# Altium footprint library my_battery.PCBLIB: 41 footprints (part 2 of 3)
Each footprint in its own frame and in the unit in brackets; x right, y up, seen from the top. Pads: shape width x height; smd on the part's side, far side on the other; paste and mask are expansions set on the pad; w line width, h text height; cw(c..) or ccw(c..) is an arc to the next point about the centre after c.
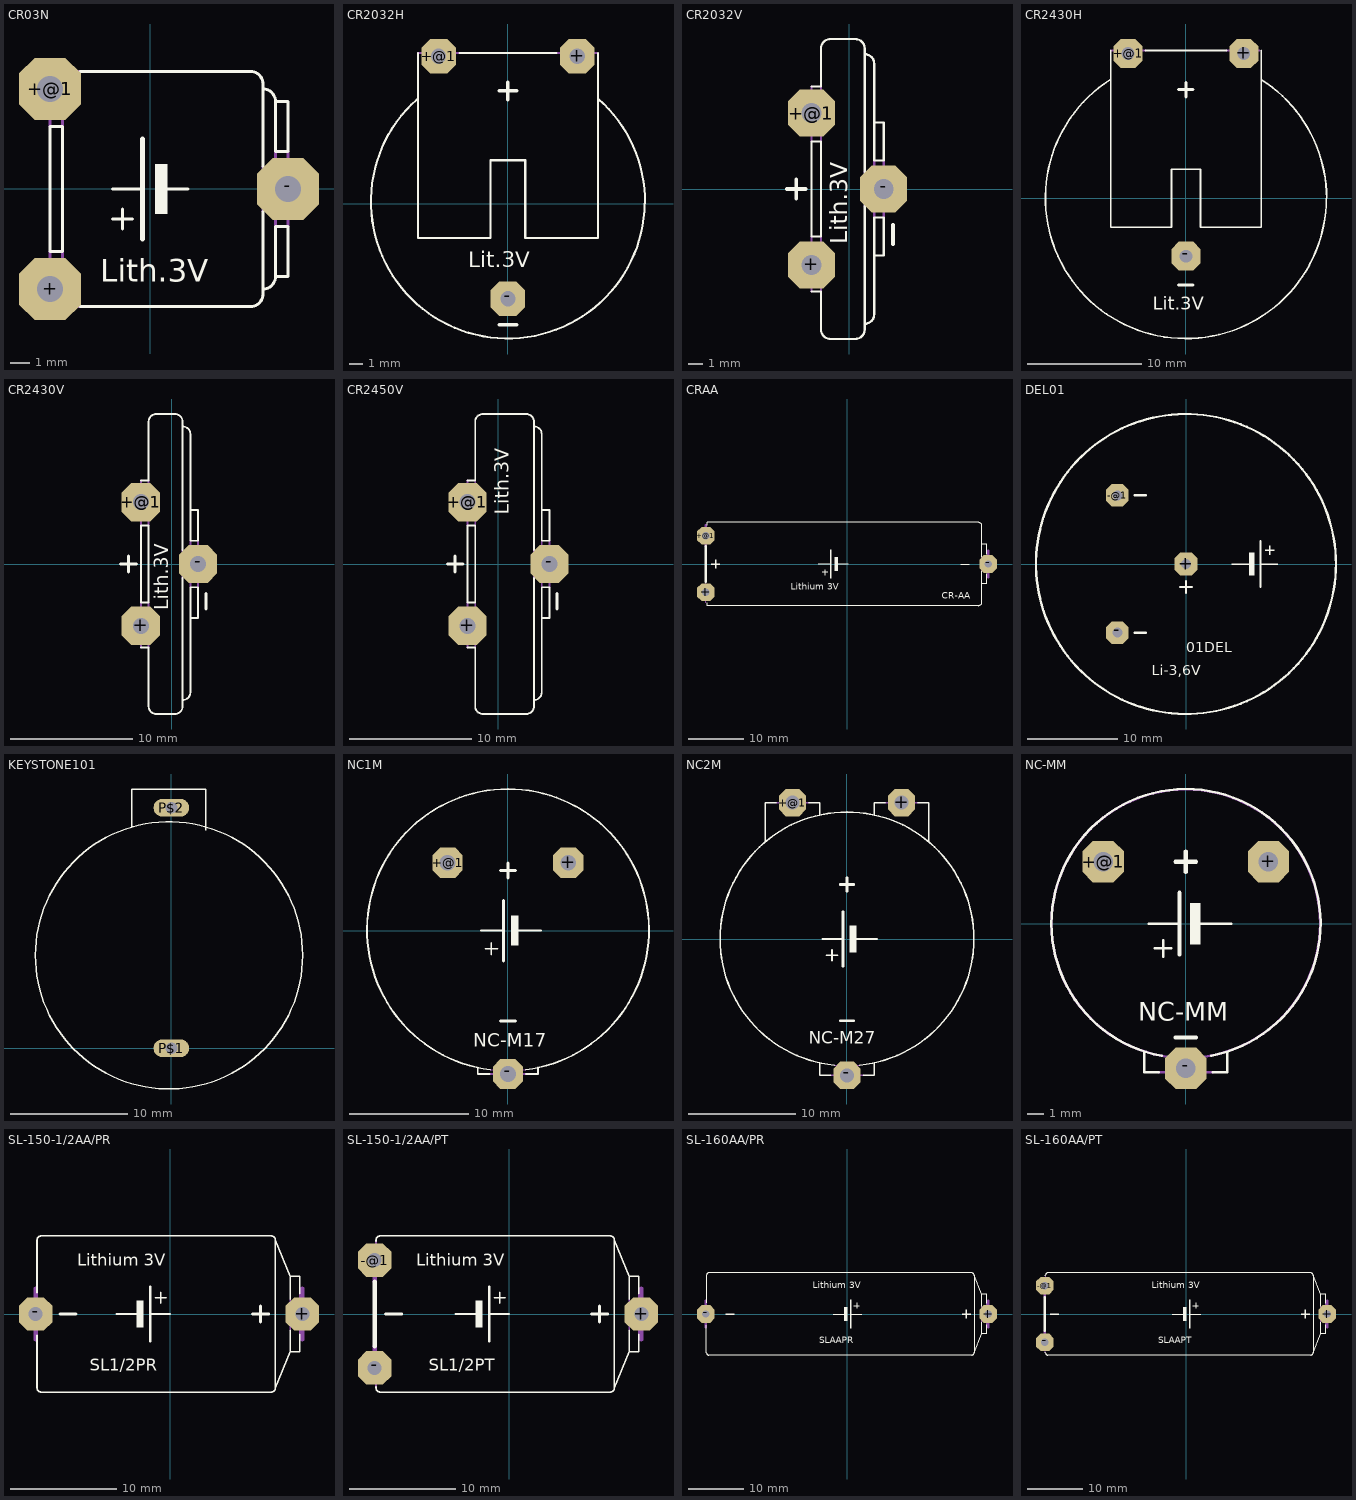
[diagram p1: the footprints below, top view; thin cyan lines are the x and y axes]

## CR03N [mil]
pads (3):
  oct 124x124 hole 52: +(-200,-200) +@1(-200,200) -(275,0)
Top Overlay:
  rectangle: 10,-50 35,50
  lines w6: -140,-235 200,-235 ccw(c200,-210) 225,-210 225,-45 ; -140,235 200,235 cw(c200,210) 225,210 225,45 ; -75,-60 -35,-60 ; -75,0 -15,0 ; -55,-80 -55,-40 ; 35,0 75,0 ; 225,-200 ccw(c225,-175) 250,-175 ; 225,200 cw(c225,175) 250,175 ; 250,-175 250,-75 275,-75 275,-175 250,-175 ; 250,175 250,75 275,75 275,175 250,175 ; -200,-125 -200,125 -175,125 -175,-125 -200,-125
  lines w10: -15,-100 -15,0 -15,100
  text "Lith.3V" at -100,-200 h77.5
Mechanical 16:
  lines w6: -200,-125 -200,-235 -175,-235 -175,-125 ; -200,125 -200,235 -175,235 -175,125 ; -175,-210 ccw(c-150,-210) -150,-235 -140,-235 ; -175,210 cw(c-150,210) -150,235 -140,235 ; 225,-45 225,45 ; 250,-75 250,75 ; 275,-75 275,75

## CR2032H [mil]
pads (3):
  oct 100x100 hole 44: +(200,425) +@1(-200,425) -(0,-275)
Top Overlay:
  lines w6: -263.7,300 ccw(c-0.19,5.43) 395,0 ; -260,435 -260,-100 -50,-100 -50,125 50,125 50,-100 260,-100 260,435 ; -140,435 140,435 ; 261,302 cw(c0.51,4.38) 396,0
  lines w10: -25,-350 25,-350 ; -25,325 25,325 ; 0,300 0,350
  text "Lit.3V" at -115,-200 h77.5
Mechanical 16:
  lines w6: -260,435 -140,435 ; 140,435 255,435

## CR2032V [mil]
pads (3):
  oct 124x124 hole 52: +(-100,-200) +@1(-100,200) -(90,0)
Top Overlay:
  lines w6: -100,-270 -75,-270 -75,-370 ccw(c-50,-370) -50,-395 15,-395 ccw(c15,-370) 40,-370 40,-45 ; -100,270 -75,270 -75,370 cw(c-50,370) -50,395 15,395 cw(c15,370) 40,370 40,45 ; 40,-355 ccw(c40,-330) 65,-330 65,-175 ; 40,355 cw(c40,330) 65,330 65,175 ; 65,-175 65,-75 90,-75 90,-175 65,-175 ; 65,175 65,75 90,75 90,175 65,175 ; -100,-125 -100,125 -75,125 -75,-125 -100,-125
  lines w10: -165,0 -115,0 ; -140,-25 -140,25 ; 115,-145 115,-95
  text "Lith.3V" at 10,-145 h77.5
Mechanical 16:
  lines w6: -100,-270 -100,-125 ; -100,125 -100,270 ; -75,-270 -75,-125 ; -75,125 -75,270 ; 40,-45 40,45 ; 65,-75 65,75 ; 90,-75 90,75

## CR2430H [mil]
pads (3):
  oct 100x100 hole 44: +(200,500) +@1(-200,500) -(0,-200)
Top Overlay:
  lines w6: -262.01,409 ccw(c-0.24,0.43) 485,0 ; -260,510 -260,-100 -50,-100 -50,100 50,100 50,-100 260,-100 260,510 ; -140,510 140,510 ; 260,410 cw(c0.25,-0.46) 486,0
  lines w10: -25,-300 25,-300 ; -25,375 25,375 ; 0,350 0,400
  text "Lit.3V" at -115,-400 h77.5
Mechanical 16:
  lines w6: -260,510 -140,510 ; 140,510 255,510

## CR2430V [mil]
pads (3):
  oct 124x124 hole 52: +(-100,-200) +@1(-100,200) -(85,0)
Top Overlay:
  lines w6: -100,-270 -75,-270 -75,-460 ccw(c-50,-460) -50,-485 10,-485 ccw(c10,-460) 35,-460 35,-45 ; -100,270 -75,270 -75,460 cw(c-50,460) -50,485 10,485 cw(c10,460) 35,460 35,45 ; 35,-440 ccw(c35,-415) 60,-415 60,-175 ; 35,445 cw(c35,420) 60,420 60,175 ; 60,-175 60,-75 85,-75 85,-175 60,-175 ; 60,175 60,75 85,75 85,175 60,175 ; -100,-125 -100,125 -75,125 -75,-125 -100,-125
  lines w10: -165,0 -115,0 ; -140,-25 -140,25 ; 110,-145 110,-95
  text "Lith.3V" at 5,-150 h77.5
Mechanical 16:
  lines w6: -100,-270 -100,-125 ; -100,125 -100,270 ; -75,-270 -75,-125 ; -75,125 -75,270 ; 35,-45 35,45 ; 60,-75 60,75 ; 85,-75 85,75

## CR2450V [mil]
pads (3):
  oct 124x124 hole 52: +(-100,-200) +@1(-100,200) -(165,0)
Top Overlay:
  lines w6: -100,-270 -75,-270 -75,-460 ccw(c-50,-460) -50,-485 90,-485 ccw(c90,-460) 115,-460 115,-45 ; -100,270 -75,270 -75,460 cw(c-50,460) -50,485 90,485 cw(c90,460) 115,460 115,45 ; 115,-440 ccw(c115,-415) 140,-415 140,-175 ; 115,445 cw(c115,420) 140,420 140,175 ; 140,-175 140,-75 165,-75 165,-175 140,-175 ; 140,175 140,75 165,75 165,175 140,175 ; -100,-125 -100,125 -75,125 -75,-125 -100,-125
  lines w10: -165,0 -115,0 ; -140,-25 -140,25 ; 190,-145 190,-95
  text "Lith.3V" at 50,160 h77.5
Mechanical 16:
  lines w6: -100,-270 -100,-125 ; -100,125 -100,270 ; -75,-270 -75,-125 ; -75,125 -75,270 ; 115,-45 115,45 ; 140,-75 140,75 ; 165,-75 165,75

## CRAA [mil]
pads (3):
  oct 124x124 hole 52: +(-1000,-200) +@1(-1000,200) -(1000,0)
Top Overlay:
  rectangle: -90,-50 -65,50
  lines w6: -990,-275 -990,-295 930,-295 ccw(c930,-270) 955,-270 955,-140 ; -990,275 -990,295 930,295 cw(c930,270) 955,270 955,140 ; -205,0 -115,0 ; -175,-60 -135,-60 ; -155,-80 -155,-40 ; -65,0 10,0 ; 805,0 865,0 ; 955,-50 955,-140 ; 955,50 955,140 ; 990,-70 990,-140 955,-140 ; 990,70 990,140 955,140
  lines w10: -960,0 -900,0 ; -930,-30 -930,30 ; -115,-100 -115,0 -115,100
  lines w16: -1000,-125 -1000,125
  text "Lithium 3V" at -400,-200 h77.5
  text "CR-AA" at 670,-265 h77.5
Mechanical 16:
  lines w6: -1000,-275 -1000,-125 ; 955,-50 955,50
  lines w16: -1000,125 -1000,275 ; 1000,-95 1000,95

## DEL01 [mil]
pads (3):
  oct 100x100 hole 44: +(0,0) -(-300,-300) -@1(-300,300)
Top Overlay:
  circle w10: c0,0 r655
  rectangle: 275,-50 300,50
  lines w6: 200,0 275,0 ; 325,0 400,0 ; 345,60 385,60 ; 365,40 365,80
  lines w10: -225,-300 -175,-300 ; -225,300 -175,300 ; -25,-100 25,-100 ; 0,-125 0,-75 ; 325,-100 325,0 325,100
  text "Li-3,6V" at -150,-500 h77.5
  text "01DEL" at 0,-400 h77.5

## KEYSTONE101 [mil]
pads (2):
  oval 120x60 hole 40: P$1(0,0) P$2(0,808)
Top Overlay:
  circle w5: c-7.87,312 r449
  lines w5: -129.92,745 -133.86,745 -133.86,871 115,871 115,733

## NC1M [mil]
pads (3):
  oct 100x100 hole 52: +(200,225) +@1(-200,225) -(0,-475)
Top Overlay:
  rectangle: 10,-50 35,50
  lines w6: -100,-454.13 -100,-475 -60,-475 ; -90,0 -15,0 ; -75,-60 -35,-60 ; -58.42,-461.32 cw(c0.29,2.3) 59,-461.32 ; -55,-80 -55,-40 ; 35,0 110,0 ; 60,-475 100,-475 100,-454.13
  lines w10: -25,-300 25,-300 ; -25,200 25,200 ; -15,-100 -15,0 -15,100 ; 0,175 0,225
  text "NC-M17" at -115,-400 h77.5
Mechanical 16:
  lines w6: -60,-475 60,-475 ; -58.42,-461.32 ccw(c0.29,2.3) 59,-461.32

## NC2M [mil]
pads (3):
  oct 100x100 hole 52: +(200,500) +@1(-200,500) -(0,-500)
Top Overlay:
  rectangle: 10,-50 35,50
  lines w6: -300,356 -300,500 -260,500 ; -140,500 -100,500 -100,455 ; -100,-455 -100,-500 -60,-500 ; -90,0 -15,0 ; -75,-60 -35,-60 ; -55,-80 -55,-40 ; -46.94,-462.63 cw(c0.03,0.31) 47,-462.63 ; 35,0 110,0 ; 60,-500 100,-500 100,-455 ; 100,455 100,500 140,500 ; 260,500 300,500 300,355
  lines w10: -25,-300 25,-300 ; -25,200 25,200 ; -15,-100 -15,0 -15,100 ; 0,175 0,225
  text "NC-M27" at -140,-400 h77.5
Mechanical 16:
  lines w6: -260,500 -140,500 ; -60,-500 60,-500 ; -46.94,-462.63 ccw(c0.03,0.31) 47,-462.63 ; 140,500 260,500

## NC-MM [mil]
pads (3):
  oct 100x100 hole 47: +(200,150) +@1(-200,150) -(0,-350)
Top Overlay:
  rectangle: 10,-50 35,50
  lines w6: -100,-310 -100,-360 -65,-360 ; -90,0 -15,0 ; -75,-60 -35,-60 ; -58.14,-319.76 cw(c0,0) -325,0 cw(c0.49,0.4) 62,-319.22 ; -55,-80 -55,-40 ; 35,0 110,0 ; 65,-360 100,-360 100,-310
  lines w10: -25,-275 25,-275 ; -25,150 25,150 ; -15,-75 -15,0 -15,75 ; 0,125 0,175
  text "NC-MM" at -115,-250 h77.5
Mechanical 16:
  circle w6: c0,0 r325
  lines w6: -65,-360 65,-360

## SL-150-1/2AA/PR [mil]
pads (2):
  oct 124x124 hole 52: +(490,0) -(-500,0)
Top Overlay:
  rectangle: -125,-50 -100,50
  lines w6: -495,-80 -495,-275 ccw(c-480,-275) -480,-290 375,-290 ccw(c375,-275) 390,-275 ; -495,80 -495,275 cw(c-480,275) -480,290 375,290 cw(c375,275) 390,275 ; -200,0 -125,0 ; -75,0 0,0 ; -55,60 -15,60 ; -35,40 -35,80 ; 445,-60 445,-140 ; 445,55 445,140 ; 480,-75 480,-140 445,-140 ; 480,75 480,140 445,140 ; 390,-275 445,-140 ; 390,-275 390,275 ; 390,275 445,140
  lines w10: -410,0 -350,0 ; -75,-100 -75,0 -75,100 ; 305,0 365,0 ; 335,-30 335,30
  text "Lithium 3V" at -345,165 h77.5
  text "SL1/2PR" at -300,-225 h77.5
Mechanical 16:
  lines w6: 445,-60 445,55 ; 480,-75 480,75
  lines w16: -500,-95 -500,95 ; 490,-95 490,95

## SL-150-1/2AA/PT [mil]
pads (3):
  oct 124x124 hole 52: +(490,0) -(-500,-200) -@1(-500,200)
Top Overlay:
  rectangle: -125,-50 -100,50
  lines w6: -495,-270 -495,-275 ccw(c-480,-275) -480,-290 375,-290 ccw(c375,-275) 390,-275 ; -495,270 -495,275 cw(c-480,275) -480,290 375,290 cw(c375,275) 390,275 ; -200,0 -125,0 ; -75,0 0,0 ; -55,60 -15,60 ; -35,40 -35,80 ; 445,-60 445,-140 ; 445,55 445,140 ; 480,-75 480,-140 445,-140 ; 480,75 480,140 445,140 ; 390,-275 445,-140 ; 390,-275 390,275 ; 390,275 445,140
  lines w10: -460,0 -400,0 ; -75,-100 -75,0 -75,100 ; 305,0 365,0 ; 335,-30 335,30
  lines w16: -500,-120 -500,120
  text "Lithium 3V" at -345,165 h77.5
  text "SL1/2PT" at -300,-225 h77.5
Mechanical 16:
  lines w6: -495,-270 -495,-215 ; -495,215 -495,270 ; 445,-60 445,55 ; 480,-75 480,75
  lines w16: -500,-215 -500,-120 ; -500,120 -500,215 ; 490,-95 490,95

## SL-160AA/PR [mil]
pads (2):
  oct 124x124 hole 52: +(995,0) -(-1000,0)
Top Overlay:
  rectangle: -25,-50 0,50
  lines w6: -995,-80 -995,-275 ccw(c-980,-275) -980,-290 880,-290 ccw(c880,-275) 895,-275 ; -995,80 -995,275 cw(c-980,275) -980,290 880,290 cw(c880,275) 895,275 ; -100,0 -25,0 ; 25,0 100,0 ; 45,60 85,60 ; 65,40 65,80 ; 950,-60 950,-140 ; 950,55 950,140 ; 985,-75 985,-140 950,-140 ; 985,75 985,140 950,140 ; 895,-275 950,-140 ; 895,-275 895,275 ; 895,275 950,140
  lines w10: -860,0 -800,0 ; 25,-100 25,0 25,100 ; 810,0 870,0 ; 840,-30 840,30
  text "Lithium 3V" at -245,165 h77.5
  text "SLAAPR" at -200,-225 h77.5
Mechanical 16:
  lines w6: 950,-60 950,55 ; 985,-75 985,75
  lines w16: -1000,-95 -1000,95 ; 995,-95 995,95

## SL-160AA/PT [mil]
pads (3):
  oct 124x124 hole 52: +(995,0) -(-1000,-200) -@1(-1000,200)
Top Overlay:
  rectangle: -25,-50 0,50
  lines w6: -995,-270 -995,-275 ccw(c-980,-275) -980,-290 880,-290 ccw(c880,-275) 895,-275 ; -995,270 -995,275 cw(c-980,275) -980,290 880,290 cw(c880,275) 895,275 ; -100,0 -25,0 ; 25,0 100,0 ; 45,60 85,60 ; 65,40 65,80 ; 950,-60 950,-140 ; 950,55 950,140 ; 985,-75 985,-140 950,-140 ; 985,75 985,140 950,140 ; 895,-275 950,-140 ; 895,-275 895,275 ; 895,275 950,140
  lines w10: -960,0 -900,0 ; 25,-100 25,0 25,100 ; 810,0 870,0 ; 840,-30 840,30
  lines w16: -1000,-120 -1000,120
  text "Lithium 3V" at -245,165 h77.5
  text "SLAAPT" at -200,-225 h77.5
Mechanical 16:
  lines w6: -995,-270 -995,-215 ; -995,215 -995,270 ; 950,-60 950,55 ; 985,-75 985,75
  lines w16: -1000,-215 -1000,-120 ; -1000,120 -1000,215 ; 995,-95 995,95